# Altium footprint library emi.PcbLib: 2 footprints
Each footprint in its own frame and in the unit in brackets; x right, y up, seen from the top. Pads: shape width x height; smd on the part's side, far side on the other; paste and mask are expansions set on the pad; w line width, h text height; cw(c..) or ccw(c..) is an arc to the next point about the centre after c.
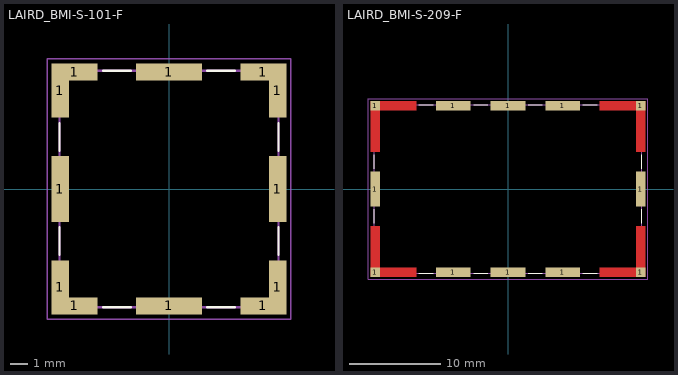
[diagram p0: the footprints below, top view; thin cyan lines are the x and y axes]

## LAIRD_BMI-S-101-F [mm] "Two-Piece Board Level Shield, Frame 13.66x12.70x2.54"
pads (12):
  rect 1x3.13 smd: 1(-6.25,-5.665) 1(-6.25,5.665) 1(6.25,-5.665) 1(6.25,5.665)
  rect 1x3.8 smd: 1(-6.25,0) 1(6.25,0)
  rect 2.65x1 smd: 1(-5.425,-6.73) 1(-5.425,6.73) 1(5.425,-6.73) 1(5.425,6.73)
  rect 3.8x1 smd: 1(0,-6.73) 1(0,6.73)
Top Overlay:
  lines w0.127: -6.3,-3.8 -6.3,-2.2 ; -6.3,2.2 -6.3,3.8 ; -3.8,-6.8 -2.2,-6.8 ; -3.8,6.8 -2.2,6.8 ; 2.2,-6.8 3.8,-6.8 ; 2.2,6.8 3.8,6.8 ; 6.3,-3.8 6.3,-2.2 ; 6.3,2.2 6.3,3.8
Mechanical 13:
  lines w0.127: -6.3,-6.8 6.3,-6.8 6.3,6.8 -6.3,6.8 -6.3,-6.8
Mechanical 15:
  lines w0.1: -7,-7.5 -7,7.5 7,7.5 7,-7.5 -7,-7.5
3D body "bmi-s-201-f-stp-file.STP": height 2.52, standoff -0.02, extent -6.655,-7.135 6.655,7.135

## LAIRD_BMI-S-209-F [mm] "Two-Piece Board Level Shield, Frame 29.36x18.50x7.00"
pads (12):
  rect 1x1 smd paste-1 mask+0: 1(-14.58,-9.15) 1(-14.58,9.15) 1(14.58,-9.15) 1(14.58,9.15)
  rect 1x3.8 smd: 1(-14.58,0) 1(14.58,0)
  rect 3.8x1 smd: 1(-6,-9.15) 1(-6,9.15) 1(0,-9.15) 1(0,9.15) 1(6,-9.15) 1(6,9.15)
Top Layer:
  region: 15.08,-9.65 10.1,-9.65 10.1,-8.65 14.08,-8.65 14.08,-4.1 15.08,-4.1
  region: -10.1,8.65 -14.08,8.65 -14.08,4.1 -15.08,4.1 -15.08,9.65 -10.1,9.65
  region: 15.08,4.1 14.08,4.1 14.08,8.65 10.1,8.65 10.1,9.65 15.08,9.65
  region: -14.08,-8.65 -10.1,-8.65 -10.1,-9.65 -15.08,-9.65 -15.08,-4.1 -14.08,-4.1
Top Overlay:
  lines w0.127: -14.68,-3.78 -14.68,-2.22 ; -14.68,2.22 -14.68,3.78 ; -9.78,-9.25 -8.22,-9.25 ; -9.78,9.25 -8.22,9.25 ; -3.78,-9.25 -2.22,-9.25 ; -3.78,9.25 -2.22,9.25 ; 2.22,-9.25 3.78,-9.25 ; 2.22,9.25 3.78,9.25 ; 8.22,-9.25 9.78,-9.25 ; 8.22,9.25 9.78,9.25 ; 14.68,-3.78 14.68,-2.22 ; 14.68,2.22 14.68,3.78
Top Paste:
  region: 15.08,-9.65 10.1,-9.65 10.1,-8.65 14.08,-8.65 14.08,-4.1 15.08,-4.1
  region: -10.1,8.65 -14.08,8.65 -14.08,4.1 -15.08,4.1 -15.08,9.65 -10.1,9.65
  region: 15.08,4.1 14.08,4.1 14.08,8.65 10.1,8.65 10.1,9.65 15.08,9.65
  region: -14.08,-8.65 -10.1,-8.65 -10.1,-9.65 -15.08,-9.65 -15.08,-4.1 -14.08,-4.1
Top Solder:
  region: 15.18,-9.75 10,-9.75 10,-8.55 13.98,-8.55 13.98,-4 15.18,-4
  region: -10,8.55 -13.98,8.55 -13.98,4 -15.18,4 -15.18,9.75 -10,9.75
  region: 15.18,4 13.98,4 13.98,8.55 10,8.55 10,9.75 15.18,9.75
  region: -13.98,-8.55 -10,-8.55 -10,-9.75 -15.18,-9.75 -15.18,-4 -13.98,-4
Mechanical 13:
  lines w0.127: -14.68,-9.25 -14.68,9.25 14.68,9.25 14.68,-9.25 -14.68,-9.25
Mechanical 15:
  lines w0.05: -15.33,-9.9 15.33,-9.9 15.33,9.9 -15.33,9.9
  lines w0.1: -15.33,-9.9 -15.33,9.9
3D body "bmi-s-209-f-stp-file.STP": height 7, standoff 0, extent -14.68,-9.2 14.68,9.3